# Altium schematic symbol library switches.SchLib: 8 symbols
Pins are listed as number, name and electrical type; pins without a type are passive.

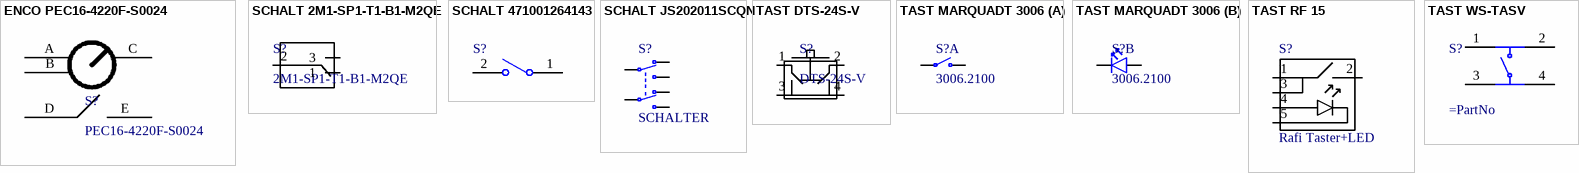
[diagram p0: symbols ENCO PEC16-4220F-S0024 to TAST WS-TASV]

## ENCO PEC16-4220F-S0024
designator S?, comment PEC16-4220F-S0024
Encoders 20MM SHAFT w/switch; Manufacturer: Bourns; Manufacturer Part Number: PEC16-4220F-S0024; Created by: Nils Minor; Value: ENCODER
footprint PEC16-4220F-S0024
pins: A, B, C, D, E

## SCHALT 2M1-SP1-T1-B1-M2QE
designator S?, comment 2M1-SP1-T1-B1-M2QE
SWITCH TOGGLE SPDT 5A 125V; Manufacturer: Carling Technologies; Value: SCHALTER; Manufacturer Part Number: 2M1-SP1-T1-B1-M2QE; Created by: Nils Minor
footprint 2M1-SP1-T1-B1-M2QE
pins: 1, 2, 3

## SCHALT 471001264143
designator S?, comment 471001264143  (value not drawn)
19.2 x 12.9 mm panel Cut-out with 0.187” quick connect terminal Rocker Switch WS-RSTV, SPST, 600 gf, 16 A, 250 V AC; Manufacturer: Würth; Value: SCHALTER; Created by: Nils Minor; Manufacturer Part Number: 471001264143
footprint 471001264143 (Footprint not found)
pins: 1, 2

## SCHALT JS202011SCQN
designator S?, comment SCHALTER
SMD slide Switch (ON-ON); Manufacturer: ITT /  C&K Components; Manufacturer Part Number: JS202011SCQN; Created by: Nils Minor; Value: SCHALTER
footprint Switch-Slide-DPDT-8.5x3.6mm
pins: 1 N.O-1, 2 COM-1, 3 N.C-1, 4 N.O-2, 5 COM-2, 6 N.C-2

## TAST DTS-24S-V
designator S?, comment DTS-24S-V
Pushbutton 12 Vdc 0.05 A 1 x Off/(On) Diptronics DTS-24N-V momentary 500 pc(s); Value: TASTER; Manufacturer: Diptronics; Manufacturer Part Number: DTS-24N-V; Created by: Nils Minor
footprint DTS-24S-V
pins: 1, 2, 3, 4

## TAST MARQUADT 3006
designator S?, comment 3006.2100
Kurzhubtaster der Firma Marquadt mit intergierter LED; Manufacturer: Marquard; Value: TASTER+LED; Created by: Nils Minor; Manufacturer Part Number: 3006.2100
footprint MARQUADT 3006
part A pins: 1, 2
part B pins: A, K

## TAST RF 15
designator S?, comment Rafi Taster+LED
Karton: 1600 St. / Typ: RF 15; / Funktion: Taster; / Druckkraft: 2,9 N; / Montage: THT; / Maximalspannung: 35 V; / Maximalstrom: 100 mA; Manufacturer Part Number: 3.14.100.001/0000; Created by: Nils Minor; Manufacturer: RAFI; Value: TASTER
footprint RAFI_LED
pins: 1, 2, 3, 4 LED+, 5 LED-

## TAST WS-TASV
designator S?
WS-TASV 6x6 mm SMD J-Bend washable; Manufacturer: Wurth Elektronik; Manufacturer Part Number: 430483025816; Value: TASTER; Created by: Nils Minor
footprint Switch-PB-6.2x6.3mm-SMD
pins: 1, 2, 3, 4